# Altium schematic symbol library TPS40055.SchLib: 1 symbol
Pins are listed as number, name and electrical type; pins without a type are passive.

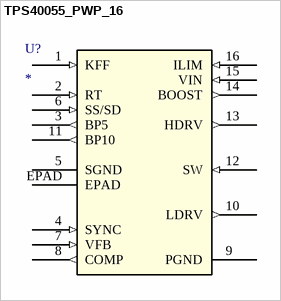
[diagram p0: symbol TPS40055_PWP_16]

## TPS40055_PWP_16
designator U?
Wide-Input Synchronous Buck Controller; Manufacturer_Part_Number: tps40055_pwp_16; GENERIC_PART_NUMBER: TPS40055; Vendor: Texas Instruments; PACKAGE_DESIGNATOR: PWP; PIN_COUNT: 16; FAMILY_NAME: STEP-DOWN CONTROLLER; INDUSTRY_STD_PKG_TYPE: HTSSOP; Datasheet URL: http://www.ti.com/lit/gpn/TPS40055; Manufacturer: Texas Instruments; RefDes: RefDes; Type: DEV; Value: Value
footprint PWP16_2P31X2P46
pins: 1 KFF (in), 2 RT (in), 3 BP5 (out), 4 SYNC (in), 5 SGND (power), 6 SS/SD (in), 7 VFB (in), 8 COMP (out), 9 PGND (power), 10 LDRV (out), 11 BP10 (out), 12 SW (in), 13 HDRV (out), 14 BOOST (out), 15 VIN (in), 16 ILIM (in), EPAD